# EAGLE library part MSP430F21*1 (library msp430)
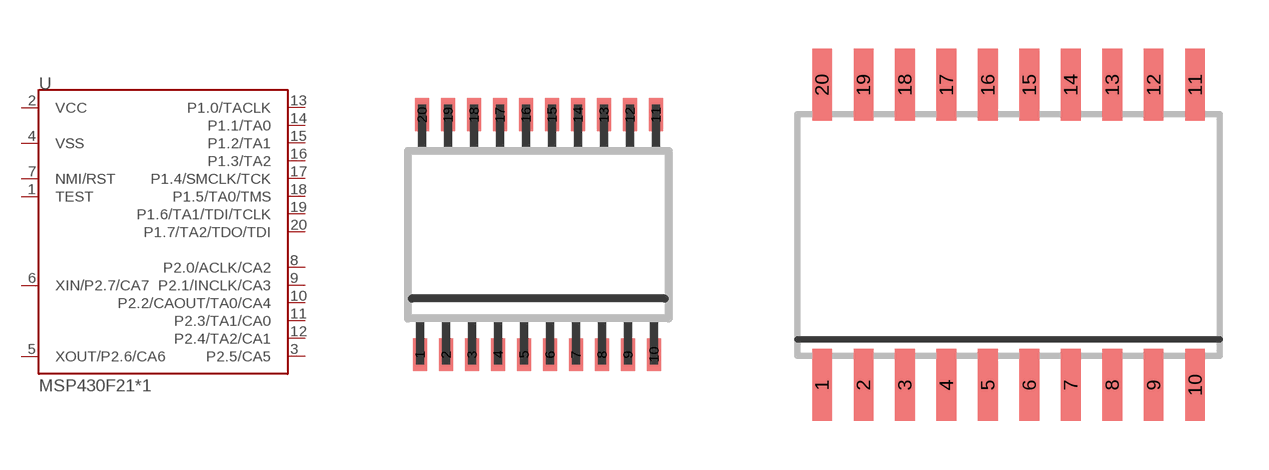
[diagram p11: symbol with the pads of SO-20(PW); footprints SO-20(PW), SO-20DW]

Designator prefix -

## MSP430F211PW  [SO-20(PW)]
1  TEST
2  VCC  pwr
3  P2.5/CA5
4  VSS  pwr
5  XOUT/P2.6/CA6  pas
6  XIN/P2.7/CA7  pas
7  NMI/RST  in
8  P2.0/ACLK/CA2
9  P2.1/INCLK/CA3
10  P2.2/CAOUT/TA0/CA4
11  P2.3/TA1/CA0
12  P2.4/TA2/CA1
13  P1.0/TACLK
14  P1.1/TA0
15  P1.2/TA1
16  P1.3/TA2
17  P1.4/SMCLK/TCK
18  P1.5/TA0/TMS
19  P1.6/TA1/TDI/TCLK
20  P1.7/TA2/TDO/TDI

## MSP430F211DW  [SO-20DW]
Pads as for SO-20(PW)

## Footprint SO-20(PW) (pad centres in mm)
smd 0.35 x 0.813: 1 -2.95,-3; 2 -2.3,-3; 3 -1.65,-3; 4 -1,-3; 5 -0.35,-3; 6 0.3,-3; 7 0.95,-3; 8 1.6,-3; 9 2.25,-3; 10 2.9,-3; 11 2.95,3; 12 2.3,3; 13 1.65,3; 14 1,3; 15 0.35,3; 16 -0.3,3; 17 -0.95,3; 18 -1.6,3; 19 -2.25,3; 20 -2.9,3

## Footprint SO-20DW (pad centres in mm)
smd 0.6 x 2.2: 1 -5.715,-4.6; 2 -4.445,-4.6; 3 -3.175,-4.6; 4 -1.905,-4.6; 5 -0.635,-4.6; 6 0.635,-4.6; 7 1.905,-4.6; 8 3.175,-4.6; 9 4.445,-4.6; 10 5.715,-4.6; 11 5.715,4.6; 12 4.445,4.6; 13 3.175,4.6; 14 1.905,4.6; 15 0.635,4.6; 16 -0.635,4.6; 17 -1.905,4.6; 18 -3.175,4.6; 19 -4.445,4.6; 20 -5.715,4.6